# EAGLE library part 416131160812 (library Wurth_Elektronik_Electromechanic_Switch_rev15d)
WS-HP-1.27 mm small compact SMD Dip Switch with top tape,24 pins,12 poles
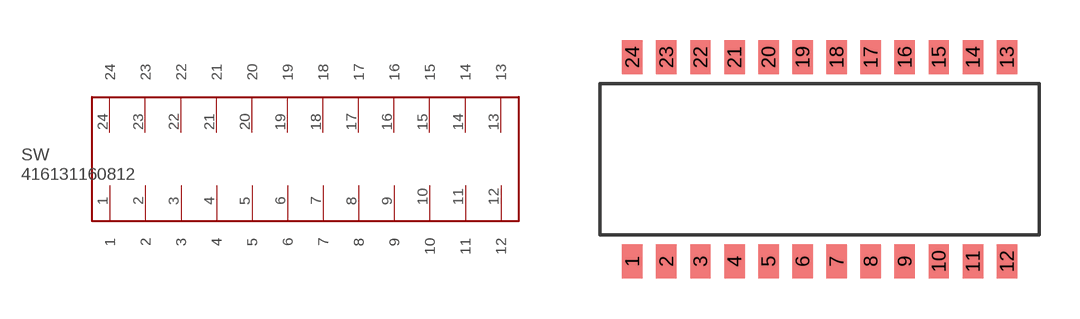
[diagram p30: symbol with the pads of 416131160812; footprint 416131160812]

Designator prefix SW

## 416131160812  [416131160812]
1  1
2  2
3  3
4  4
5  5
6  6
7  7
8  8
9  9
10  10
11  11
12  12
13  13
14  14
15  15
16  16
17  17
18  18
19  19
20  20
21  21
22  22
23  23
24  24

## Footprint 416131160812 (pad centres in mm)
WS-HP-1.27 mm small compact SMD Dip Switch with top tape,24 pins,12 poles
smd 0.76 x 1.27: 1 -6.985,-3.81; 2 -5.715,-3.81; 3 -4.445,-3.81; 4 -3.175,-3.81; 5 -1.905,-3.81; 6 -0.635,-3.81; 7 0.635,-3.81; 8 1.905,-3.81; 9 3.175,-3.81; 10 4.445,-3.81; 11 5.715,-3.81; 12 6.985,-3.81; 13 6.985,3.81; 14 5.715,3.81; 15 4.445,3.81; 16 3.175,3.81; 17 1.905,3.81; 18 0.635,3.81; 19 -0.635,3.81; 20 -1.905,3.81; 21 -3.175,3.81; 22 -4.445,3.81; 23 -5.715,3.81; 24 -6.985,3.81